# Altium footprint library 5142.48-А.PcbLib: 1 footprints
Each footprint in its own frame and in the unit in brackets; x right, y up, seen from the top. Pads: shape width x height; smd on the part's side, far side on the other; paste and mask are expansions set on the pad; w line width, h text height; cw(c..) or ccw(c..) is an arc to the next point about the centre after c.
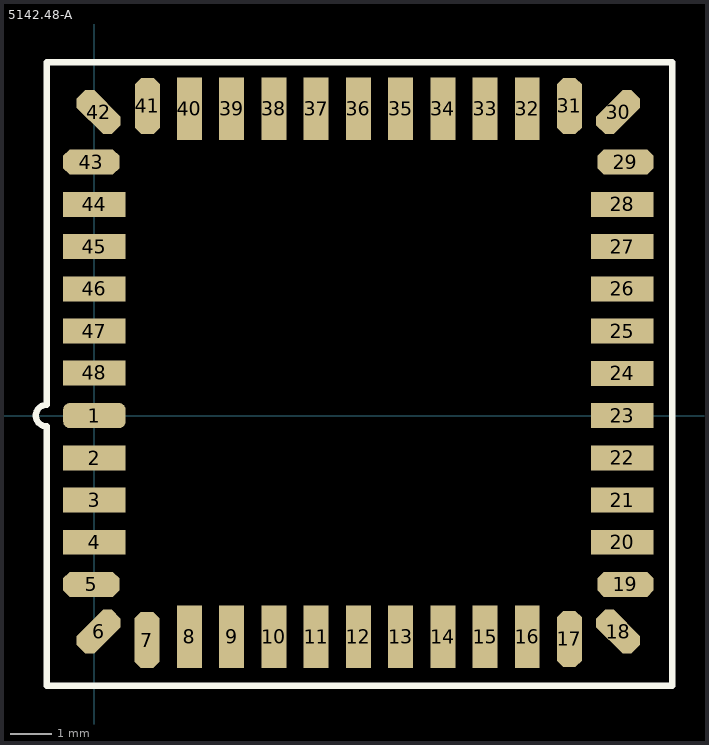
[diagram p0: the footprint, top view; thin cyan lines are the x and y axes]

## 5142.48-А [mm]
pads (48):
  rrect50% 1.5x0.6 smd: 1(0,0)
  rect 1.5x0.6 smd: 2(0,-1.025) 3(0,-2.032) 4(0,-3.048) 20(12.7,-3.048) 21(12.7,-2.032) 22(12.7,-1.016) 23(12.7,0) 24(12.7,1.016) 25(12.7,2.032) 26(12.7,3.048) 27(12.7,4.064) 28(12.7,5.08) 44(0,5.08) 45(0,4.064) 46(0,3.048) 47(0,2.032) 48(0,1.025)
  oct 1.35x0.6 smd: 5(-0.075,-4.06) 19(12.775,-4.06) 29(12.775,6.1) 43(-0.075,6.1)
  oct 0.6x1.2 smd rot 135: 6(0.1,-5.2) 30(12.6,7.3)
  oct 0.6x1.35 smd: 7(1.265,-5.4) 17(11.425,-5.375) 31(11.425,7.45) 41(1.275,7.45)
  rect 0.6x1.5 smd: 8(2.286,-5.32) 9(3.302,-5.32) 10(4.318,-5.32) 11(5.334,-5.32) 12(6.35,-5.32) 13(7.366,-5.32) 14(8.382,-5.32) 15(9.398,-5.32) 16(10.414,-5.32) 32(10.414,7.38) 33(9.398,7.38) 34(8.382,7.38) 35(7.366,7.38) 36(6.35,7.38) 37(5.334,7.38) 38(4.318,7.38) 39(3.302,7.38) 40(2.286,7.38)
  oct 0.6x1.2 smd rot 45: 18(12.6,-5.2) 42(0.1,7.3)
Top Overlay:
  lines w0.15: -1.15,-0.259 cw(c-1.15,0) -1.15,0.259
  lines w0.152: -1.15,-0.259 -1.15,-6.5 13.9,-6.5 13.9,8.5 -1.15,8.5 -1.15,0.259
3D body "korpus_5142.48-a.stp": height 2.12, standoff 0, extent 0,-5.334 12.7,7.366